# Altium footprint library axsem_actives_v1-9.PCBLIB: 17 footprints (part 2 of 2)
Each footprint in its own frame and in the unit in brackets; x right, y up, seen from the top. Pads: shape width x height; smd on the part's side, far side on the other; paste and mask are expansions set on the pad; w line width, h text height; cw(c..) or ccw(c..) is an arc to the next point about the centre after c.
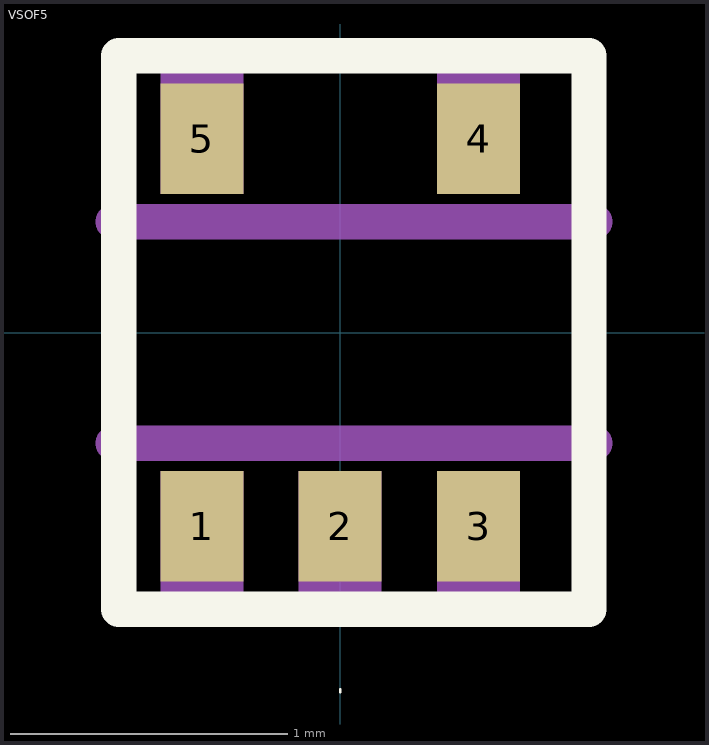
[diagram p1: the footprint, top view; thin cyan lines are the x and y axes]

## VSOF5 [mm]
pads (5):
  rect 0.3x0.4 smd: 1(-0.5,-0.7) 2(0,-0.7) 3(0.5,-0.7) 4(0.5,0.7) 5(-0.5,0.7)
Top Overlay:
  lines w0.01: 0,-1.3 0,-1.29
  lines w0.127: -0.8,-1 -0.8,1 0.9,1 0.9,-1 -0.8,-1
Mechanical 16:
  rectangle: -0.65,0.5 -0.35,1
  rectangle: -0.65,-1 -0.35,-0.5
  rectangle: -0.15,-1 0.15,-0.5
  rectangle: 0.35,-1 0.65,-0.5
  rectangle: 0.35,0.5 0.65,1
  lines w0.127: -0.82,-0.4 0.92,-0.4 ; -0.82,0.4 0.92,0.4